# Altium footprint library PCB.PcbLib: 15 footprints
Each footprint in its own frame and in the unit in brackets; x right, y up, seen from the top. Pads: shape width x height; smd on the part's side, far side on the other; paste and mask are expansions set on the pad; w line width, h text height; cw(c..) or ccw(c..) is an arc to the next point about the centre after c.
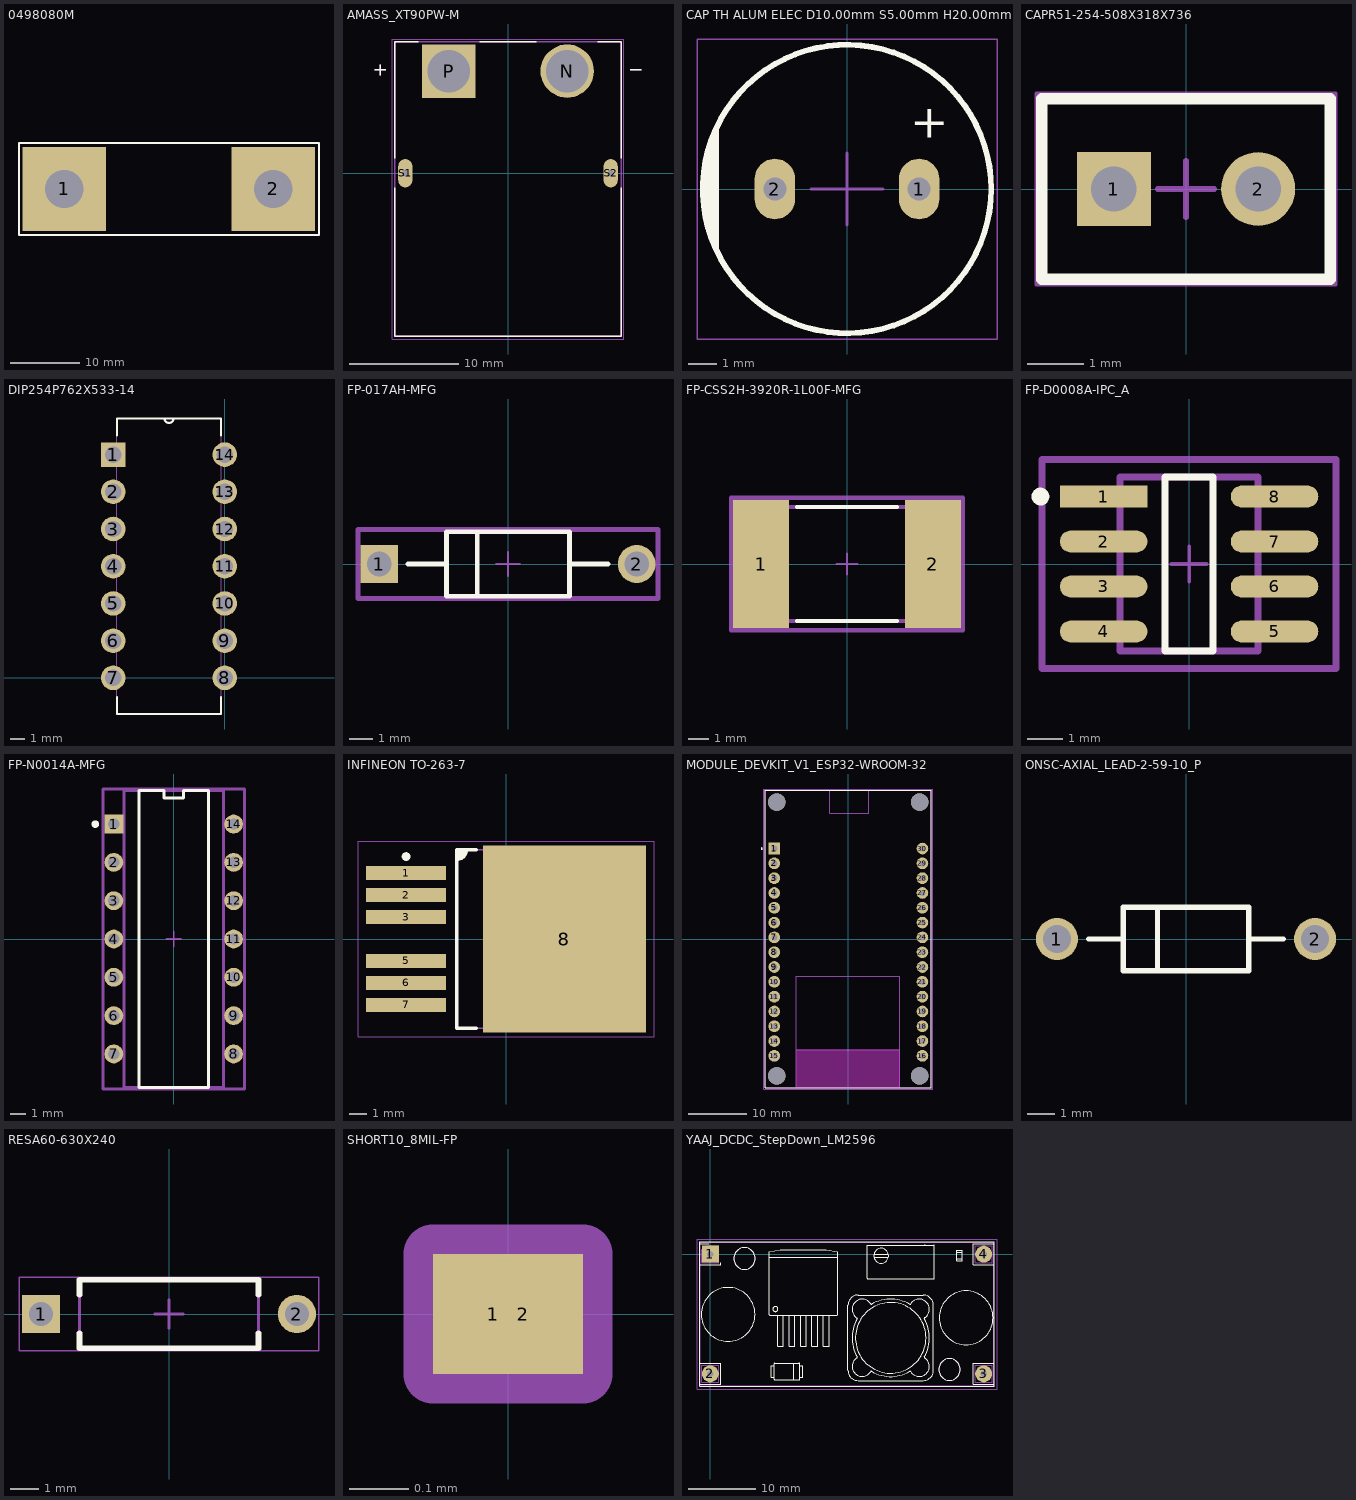
[diagram p0: the footprints below, top view; thin cyan lines are the x and y axes]

## 0498080M [mm] "80 A 32 V Fuse Automotive Bolt Mount Auto Link"
pads (2):
  rect 12x12 hole 5.5: 1(1203.452,1254.379) 2(1233.452,1254.379)
Top Overlay:
  lines w0.254: 1196.975,1247.775 1196.975,1260.983 1240.028,1260.983 1240.028,1247.775 1196.975,1247.775
  text ".Designator" at 1197.229,1270.609 h1.52

## AMASS_XT90PW-M [mm]
pads (4):
  round 4.916 hole 3.9: N(5.45,9.4)
  rect 4.916x4.916 / inner round 4.916 / far side rect 4.916x4.916 hole 3.9: P(-5.45,9.4)
  oval 1.3x2.6 hole 0.6 square: S1(-9.45,0) S2(9.45,0)
Top Overlay:
  lines w0.127: -12.25,9.5 -11.25,9.5 ; -11.75,9 -11.75,10 ; -10.4,-1.35 -10.4,-15 10.4,-15 10.4,-1.35 ; -10.4,1.4 -10.4,12.1 -8.25,12.1 ; -2.6,12.1 2.6,12.1 ; 8.25,12.1 10.4,12.1 10.4,1.4 ; 11.25,9.5 12.25,9.5
Mechanical 13:
  lines w0.127: -12.25,9.5 -11.25,9.5 ; -11.75,9 -11.75,10 ; 11.25,9.5 12.25,9.5 ; -10.4,-15 -10.4,12.1 10.4,12.1 10.4,-15 -10.4,-15
Mechanical 15:
  lines w0.05: -10.65,-15.25 -10.65,12.35 10.65,12.35 10.65,-15.25 -10.65,-15.25
3D body "step_temp.STEP": height 10.3, standoff -3.2, extent -10.6,-15 10.6,12.1

## CAP TH ALUM ELEC D10.00mm S5.00mm H20.00mm [mm] "10mm Diameter 5mm Lead Spacing Aluminum Electrolytic Capacitors Radial, Can"
height 20
pads (2):
  oval 1.4x2.1 hole 0.8: 1(2.5,0) 2(-2.5,0)
Top Overlay:
  circle w0.2: c0,0 r5
  region: -4.532,-2.113 -4.647,-1.866 -4.822,-1.349 -4.941,-0.816 -5,-0.273 -5,0.273 -4.941,0.816 -4.822,1.349 -4.647,1.866 -4.532,2.113
  lines w0.2: -4.532,-2.113 cw(c0,0) -4.532,2.113 -4.532,-2.113
  text "+" at 2.2,1.4 h2
Mechanical 13:
  circle w0.1: c0,0 r5
  lines w0.1: -4.532,-2.113 -4.532,2.113
Mechanical 15:
  lines w0.05: -5.2,-5.2 -5.2,5.2 5.2,5.2 5.2,-5.2 -5.2,-5.2
  lines w0.1: -1.25,0 0,0 ; 0,-1.25 0,0 ; 0,1.25 0,0 ; 1.25,0 0,0
3D body "Cap TH D10.00mm H20.00mm L5.00mm.step": height 20, standoff -2.5, extent -5.007,-5 5,5

## CAPR51-254-508X318X736 [mm] "THD, 2-Leads, Body 5.08x3.18mm"
height 7.36
pads (2):
  rect 1.3x1.3 hole 0.8: 1(-1.27,0)
  round 1.3 hole 0.8: 2(1.27,0)
Top Overlay:
  lines w0.2: -2.54,-1.59 -2.54,1.59 2.54,1.59 2.54,-1.59 -2.54,-1.59
Mechanical 13:
  lines w0.1: -2.54,-1.59 2.54,-1.59 2.54,1.59 -2.54,1.59 -2.54,-1.59
Mechanical 15:
  lines w0.05: -2.64,-1.69 -2.64,1.69 2.64,1.69 2.64,-1.69 -2.64,-1.69
  lines w0.1: -0.5,0 0.5,0 ; 0,-0.5 0,0.5
3D body: height 7.36, standoff 0, extent -2.54,-1.59 2.54,1.59
3D body: height 6, standoff -1, extent -1.567,-0.299 -0.97,0.3
3D body: height 6, standoff -1, extent 0.973,-0.299 1.57,0.3

## DIP254P762X533-14 [mil]
pads (14):
  rect 66x66 / inner round 66 / far side rect 66x66 hole 44: 1(-300,600)
  round 66 hole 44: 2(-300,500) 3(-300,400) 4(-300,300) 5(-300,200) 6(-300,100) 7(-300,0) 8(0,0) 9(0,100) 10(0,200) 11(0,300) 12(0,400) 13(0,500) 14(0,600)
Top Overlay:
  lines w6: -290,-51 -290,-97 -10,-97 -10,-51 ; -290,652 -290,697 -162,697 ; -10,651 -10,697 -138,697 ; -162,697 ccw(c-150,697) -138,697 ; -162,697 -138,697
Mechanical 13:
  lines w0: -162,697 ccw(c-150,697) -138,697 ; -162,697 -290,697 -290,-97 -10,-97 -10,697 -138,697 ; -162,697 -138,697 ; -322,-22 -290,-22 -290,22 -322,22 -322,-22 ; -322,78 -290,78 -290,122 -322,122 -322,78 ; -322,178 -290,178 -290,222 -322,222 -322,178 ; -322,278 -290,278 -290,322 -322,322 -322,278 ; -322,378 -290,378 -290,422 -322,422 -322,378 ; -322,478 -290,478 -290,522 -322,522 -322,478 ; -322,578 -290,578 -290,622 -322,622 -322,578 ; -10,-22 22,-22 22,22 -10,22 -10,-22 ; -10,78 22,78 22,122 -10,122 -10,78 ; -10,178 22,178 22,222 -10,222 -10,178 ; -10,278 22,278 22,322 -10,322 -10,278 ; -10,378 22,378 22,422 -10,422 -10,378 ; -10,478 22,478 22,522 -10,522 -10,478 ; -10,578 22,578 22,622 -10,622 -10,578
3D body "step_temp.STEP": height 210, standoff -160, extent -155.75,-380 155.75,380

## FP-017AH-MFG [mm]
pads (2):
  rect 1.6x1.6 hole 1.05 paste-2539.97 mask+0: 1(-5.438,0)
  round 1.6 hole 1.05 paste-2539.97 mask+0: 2(5.438,0)
Top Overlay:
  lines w0.2: -4.238,0 -2.6,0 ; -1.3,-1.29 -1.3,1.29 ; 2.6,0 4.238,0 ; -2.6,-1.36 2.6,-1.36 2.6,1.36 -2.6,1.36 -2.6,-1.36
Top 3D Body:
  lines w0.2: -2.6,-1.36 2.6,-1.36 2.6,1.36 -2.6,1.36 -2.6,-1.36
Top Courtyard:
  lines w0.2: -6.338,-1.46 6.338,-1.46 6.338,1.46 -6.338,1.46 -6.338,-1.46
Top Assembly:
  lines w0.2: -6.338,-1.46 6.338,-1.46 6.338,1.46 -6.338,1.46 -6.338,-1.46
  text ".Designator" at 0,0.188 h1
Top Component Center:
  lines w0.1: -0.5,0 0.5,0 ; 0,-0.5 0,0.5
3D body "Diode_onsemi_BZX85C3V9TR_eec.STEP": height 0.25, standoff 0, extent -6.338,-1.46 6.338,1.46

## FP-CSS2H-3920R-1L00F-MFG [mm]
pads (2):
  rect 2.7x6.2 smd paste+0 mask+0: 1(-4.15,0) 2(4.15,0)
Top Overlay:
  lines w0.2: -2.425,-2.75 2.425,-2.75 ; -2.425,2.75 2.425,2.75
Top 3D Body:
  lines w0.2: -5.15,-2.75 5.15,-2.75 5.15,2.75 -5.15,2.75 -5.15,-2.75
Top Courtyard:
  lines w0.2: -5.6,-3.2 5.6,-3.2 5.6,3.2 -5.6,3.2 -5.6,-3.2
Top Assembly:
  lines w0.2: -5.6,-3.2 5.6,-3.2 5.6,3.2 -5.6,3.2 -5.6,-3.2
  text ".Designator" at 0,0.188 h1
Top Component Center:
  lines w0.1: -0.5,0 0.5,0 ; 0,-0.5 0,0.5
3D body "Res_Bourns_CSS2H-3920R-1L00F_eec.STEP": height 0.25, standoff 0, extent -5.6,-3.2 5.6,3.2

## FP-D0008A-IPC_A [mm]
pads (8):
  rect 2.469x0.622 smd paste+0 mask+0: 1(-2.414,1.905)
  rrect100% 2.469x0.622 smd paste+0 mask+0: 2(-2.414,0.635) 3(-2.414,-0.635) 4(-2.414,-1.905) 5(2.414,-1.905) 6(2.414,-0.635) 7(2.414,0.635) 8(2.414,1.905)
Top Overlay:
  circle w0.25: c-4.198,1.905 r0.125
  lines w0.2: -0.679,-2.452 0.679,-2.452 0.679,2.452 -0.679,2.452 -0.679,-2.452
Top 3D Body:
  lines w0.2: -1.947,-2.452 1.947,-2.452 1.947,2.452 -1.947,2.452 -1.947,-2.452
Top Courtyard:
  lines w0.2: -4.148,-2.953 4.148,-2.953 4.148,2.953 -4.148,2.953 -4.148,-2.953
Top Assembly:
  lines w0.2: -4.148,-2.953 4.148,-2.953 4.148,2.953 -4.148,2.953 -4.148,-2.953
  text ".Designator" at 0,0.188 h1
Top Component Center:
  lines w0.1: -0.5,0 0.5,0 ; 0,-0.5 0,0.5
3D body "IC_Texas_Instruments_ISO7220ADR_eec.STEP": height 0.25, standoff 0, extent -4.148,-2.953 4.148,2.953

## FP-N0014A-MFG [mm]
pads (14):
  rect 1.25x1.25 hole 0.75 paste-2539.97 mask+0: 1(-3.97,7.62)
  round 1.25 hole 0.75 paste-2539.97 mask+0: 2(-3.97,5.08) 3(-3.97,2.54) 4(-3.97,0) 5(-3.97,-2.54) 6(-3.97,-5.08) 7(-3.97,-7.62) 8(3.97,-7.62) 9(3.97,-5.08) 10(3.97,-2.54) 11(3.97,0) 12(3.97,2.54) 13(3.97,5.08) 14(3.97,7.62)
Top Overlay:
  circle w0.25: c-5.2,7.62 r0.125
  lines w0.2: -2.3,-9.845 -2.3,9.845 -0.657,9.845 -0.657,9.345 0.657,9.345 0.657,9.845 2.3,9.845 2.3,-9.845 -2.3,-9.845
Top 3D Body:
  lines w0.2: -3.3,-9.845 3.3,-9.845 3.3,9.845 -3.3,9.845 -3.3,-9.845
Top Courtyard:
  lines w0.2: -4.695,-9.945 4.695,-9.945 4.695,9.945 -4.695,9.945 -4.695,-9.945
Top Assembly:
  lines w0.2: -4.695,-9.945 4.695,-9.945 4.695,9.945 -4.695,9.945 -4.695,-9.945
  text ".Designator" at 0,0.188 h1
Top Component Center:
  lines w0.1: -0.5,0 0.5,0 ; 0,-0.5 0,0.5
3D body "IC_Texas_Instruments_SN7406N_eec.STEP": height 0.25, standoff 0, extent -4.695,-9.945 4.695,9.945

## INFINEON TO-263-7 [mm] "D2-PAK, 7-Pads, Body 7.82x8.52mm (max), IPC Medium Density"
height 4.57
pads (7):
  rect 4.6x0.8 smd: 1(-5.775,3.81) 2(-5.775,2.54) 3(-5.775,1.27) 5(-5.775,-1.27) 6(-5.775,-2.54) 7(-5.775,-3.81)
  rect 9.4x10.8 smd: 8(3.375,0)
Top Overlay:
  circle w0.25: c-5.775,4.76 r0.125
  region: -2.85,5.15 -2.288,5.15 -2.288,5.041 -2.371,4.838 -2.526,4.684 -2.728,4.6 -2.838,4.6 -2.85,4.6
  lines w0.2: -2.85,4.6 -2.838,4.6 ccw(c-2.838,5.15) -2.288,5.15 ; -1.725,-5.15 -2.85,-5.15 -2.85,5.15 -1.725,5.15
Mechanical 13:
  lines w0.1: -2.85,-5.15 6.6,-5.15 6.6,5.15 -2.85,5.15 -2.85,-5.15
Mechanical 15:
  lines w0.05: -8.55,-5.65 8.55,-5.65 8.55,5.65 -8.55,5.65 -8.55,-5.65
  lines w0.1: -0.5,0 0.5,0 ; 0,-0.5 0,0.5
3D body "TO-263-7.STEP": height 4.54, standoff 0, extent -7.62,-5.08 7.63,5.08

## MODULE_DEVKIT_V1_ESP32-WROOM-32 [mm]
height 7.05
pads (34):
  rect 2x2 / inner round 2 / far side rect 2x2 hole 1.02 mask+0.102: 1(-12.7,15.515)
  round 2 hole 1.02 mask+0.102: 2(-12.7,12.975) 3(-12.7,10.435) 4(-12.7,7.895) 5(-12.7,5.355) 6(-12.7,2.815) 7(-12.7,0.275) 8(-12.7,-2.265) 9(-12.7,-4.805) 10(-12.7,-7.345) 11(-12.7,-9.885) 12(-12.7,-12.425) 13(-12.7,-14.965) 14(-12.7,-17.505) 15(-12.7,-20.045) 16(12.7,-20.045) 17(12.7,-17.505) 18(12.7,-14.965) 19(12.7,-12.425) 20(12.7,-9.885) 21(12.7,-7.345) 22(12.7,-4.805) 23(12.7,-2.265) 24(12.7,0.275) 25(12.7,2.815) 26(12.7,5.355) 27(12.7,7.895) 28(12.7,10.435) 29(12.7,12.975) 30(12.7,15.515)
  round 3 hole 3 unplated mask+0: ""(-12.28,-23.475) ""(-12.28,23.475) ""(12.23,-23.475) ""(12.23,23.475)
Top Overlay:
  circle w0.2: c-14.85,15.515 r0.1
  lines w0.127: -14.28,-25.475 14.23,-25.475 ; -14.28,-25.475 -14.28,25.475 ; -14.28,-25.475 -14.28,25.475 ; -14.28,-25.475 -8.91,-25.475 8.78,-25.475 14.23,-25.475 ; -14.28,25.475 14.23,25.475 ; -14.28,25.475 -3.211,25.475 3.5,25.475 14.23,25.475 ; 14.23,-25.475 14.23,25.475 ; 14.23,-25.475 14.23,25.475
Keep-Out Layer:
  region: 8.78,-25.475 -8.91,-25.475 -8.91,-18.985 8.78,-18.985
  region: 8.78,-25.475 -8.91,-25.475 -8.91,-18.985 8.78,-18.985
Mechanical 13:
  circle w0.2: c-14.85,15.515 r0.1
  lines w0.127: -8.91,-25.475 -14.28,-25.475 -14.28,25.475 -3.211,25.475 ; -8.91,-25.475 8.78,-25.475 ; -8.91,-25.475 -8.91,-18.985 ; -8.91,-18.985 -8.91,-6.355 8.78,-6.355 8.78,-18.985 ; -8.91,-18.985 8.78,-18.985 ; -3.211,25.475 3.5,25.475 ; -3.211,25.475 -3.211,21.585 3.5,21.585 3.5,25.475 ; 3.5,25.475 14.23,25.475 14.23,-25.475 8.78,-25.475 ; 8.78,-25.475 8.78,-18.985
Mechanical 15:
  lines w0.05: -14.53,-25.725 -14.53,25.725 14.48,25.725 14.48,-25.725 -14.53,-25.725
3D body "step_temp.STEP": height 6.69, standoff -6, extent -13.97,-24.8 13.97,30.3

## ONSC-AXIAL_LEAD-2-59-10_P [mm] "AXIAL, 2-Leads, Diameter 2.35mm"
height 2.35
pads (2):
  round 1.55 hole 1.05: 1(-4.77,0) 2(4.77,0)
Top Overlay:
  lines w0.2: -3.595,0 -2.325,0 ; -1.055,-1.175 -1.055,1.175 ; 2.325,0 3.595,0 ; -2.325,-1.175 2.325,-1.175 2.325,1.175 -2.325,1.175 -2.325,-1.175
Mechanical 13:
  lines w0.1: -1.055,-1.175 -1.055,1.175 ; -2.325,-1.175 -2.325,1.175 2.325,1.175 2.325,-1.175 -2.325,-1.175
3D body: height 2.34, standoff 0, extent -1.155,-1.174 -0.955,1.174
3D body: height 1.17, standoff -6, extent 4.381,-0.392 5.163,0.392
3D body: height 1.17, standoff -6, extent -5.159,-0.392 -4.377,0.392
3D body: height 1.57, standoff 0.78, extent 4.378,-0.39 5.163,0.39
3D body: height 1.57, standoff 0.78, extent -5.162,-0.39 -4.377,0.39
3D body: height 1.56, standoff 0.78, extent -4.77,-0.392 4.77,0.392
3D body: height 2.34, standoff 0, extent -2.325,-1.173 2.325,1.173

## RESA60-630X240 [mm] "Axial Resistor, 2-Leads, Dia 2.4mm, Body Length 6.3mm"
height 2.6
pads (2):
  rect 1.35x1.35 hole 0.85: 1(-4.5,0)
  round 1.35 hole 0.85: 2(4.5,0)
Top Overlay:
  lines w0.2: -3.15,-0.674 -3.15,-1.2 3.15,-1.2 3.15,-0.674 ; -3.15,0.674 -3.15,1.2 3.15,1.2 3.15,0.674
Mechanical 13:
  lines w0.1: -3.15,-1.2 3.15,-1.2 3.15,1.2 -3.15,1.2 -3.15,-1.2
Mechanical 15:
  lines w0.05: -5.275,-1.3 -5.275,1.3 5.275,1.3 5.275,-1.3 -5.275,-1.3
  lines w0.1: -0.5,0 0.5,0 ; 0,-0.5 0,0.5
3D body: height 1.48, standoff 0.92, extent 4.225,-0.273 4.775,0.273
3D body: height 1.47, standoff 0.92, extent 3.15,-0.274 4.5,0.275
3D body: height 1.2, standoff -2, extent 4.225,-0.274 4.773,0.275
3D body: height 1.2, standoff -2, extent -4.773,-0.275 -4.225,0.274
3D body: height 1.47, standoff 0.92, extent -4.5,-0.275 -3.15,0.274
3D body: height 1.48, standoff 0.92, extent -4.775,-0.273 -4.225,0.273
3D body: height 2.4, standoff 0, extent -3.15,-1.191 3.15,1.2

## SHORT10_8MIL-FP [mil]
pads (2):
  rect 8x8 smd paste-39.37: 1(-1,0) 2(1,0)
Top Assembly:
  lines w3.94: -5,-4 -5,4 5,4 5,-4 -5,-4
Top Designator:
  text ".Designator" at -50,0 h23.62

## YAAJ_DCDC_StepDown_LM2596 [mm]
pads (4):
  rect 2.54x2.54 hole 1: 1(0,0)
  round 2.54 hole 1: 2(0,-17.78) 3(40.64,-17.78) 4(40.64,0)
Top Overlay:
  circle w0.12: c2.647,-8.957 r4
  circle w0.12: c38.029,-9.455 r4
  circle w0.12: c26.817,-12.436 r5.25
  circle w0.12: c5.08,-0.635 r1.599
  circle w0.12: c35.56,-17.145 r1.599
  circle w0.12: c9.673,-8.155 r0.375
  lines w0.12: -1.55,-19.36 1.58,-19.36 1.58,-16.2 -1.55,-16.2 ; -1.55,-1.575 1.58,-1.58 1.58,-1.27 ; -1.55,1.58 -0.25,1.58 ; 8.749,-1.166 8.749,-1.004 ; 8.75,-0.427 18.91,-0.427 ; 9.482,-18.308 9.032,-18.308 9.032,-16.558 9.482,-16.558 ; 10.01,-9.067 10.01,-13.697 10.85,-13.697 10.85,-9.067 ; 11.71,-9.067 11.71,-13.697 12.55,-13.697 12.55,-9.067 ; 12.411,-18.583 12.411,-16.283 ; 13.282,-18.308 13.732,-18.308 13.732,-16.558 13.282,-16.558 ; 13.283,-16.795 13.283,-16.7 ; 13.41,-9.067 13.41,-13.697 14.25,-13.697 14.25,-9.067 ; 15.11,-9.067 15.11,-13.697 15.95,-13.697 15.95,-9.067 ; 16.81,-9.067 16.81,-13.697 17.65,-13.697 17.65,-9.067 ; 24.324,-0.463 cw(c25.4,-0.232) 24.336,-0.514 ; 24.324,-0.002 24.349,-0.007 ; 24.336,0.049 24.361,0.018 ; 24.356,0.024 24.349,-0.007 ; 24.361,-0.482 26.439,-0.482 ; 26.439,0.018 24.361,0.018 ; 31.814,1.369 31.859,1.369 ; 31.908,1.369 31.942,1.369 ; 36.649,-0.66 37.449,-0.66 ; 36.649,0.3 37.449,0.3 ; 42.175,-19.36 39.06,-19.36 39.06,-16.2 42.175,-16.2 ; 42.175,1.58 39.06,1.58 39.06,-1.58 42.22,-1.58 ; 24.349,-0.007 24.361,0.018 ; -1.555,-19.615 -1.555,1.835 42.195,1.835 42.195,-19.615 -1.555,-19.615 ; 8.75,-8.989 8.828,-9.067 18.833,-9.067 18.91,-8.989 18.91,0.362 17.26,0.653 10.4,0.653 8.75,0.362 8.75,-8.989 ; 9.482,-18.583 ccw(c9.582,-18.583) 9.582,-18.683 13.182,-18.683 ccw(c13.182,-18.583) 13.282,-18.583 13.282,-16.283 ccw(c13.182,-16.283) 13.182,-16.183 9.582,-16.183 ccw(c9.582,-16.283) 9.482,-16.283 9.482,-18.583 ; 20.467,-17.286 ccw(c21.967,-17.286) 21.967,-18.786 31.667,-18.786 ccw(c31.667,-17.286) 33.167,-17.286 33.167,-7.586 ccw(c31.667,-7.586) 31.667,-6.086 21.967,-6.086 ccw(c21.967,-7.586) 20.467,-7.586 20.467,-17.286 ; 21.781,-15.406 ccw(c22.575,-16.678) 23.848,-17.472 cw(c23.932,-17.525) 23.982,-17.438 ccw(c26.817,-12.436) 29.653,-17.438 cw(c29.702,-17.525) 29.787,-17.472 ccw(c31.06,-16.678) 31.854,-15.406 cw(c31.907,-15.321) 31.82,-15.271 ccw(c26.817,-12.436) 31.82,-9.6 cw(c31.907,-9.551) 31.854,-9.466 ccw(c31.06,-8.193) 29.787,-7.4 cw(c29.702,-7.347) 29.653,-7.434 ccw(c26.817,-12.436) 23.982,-7.434 cw(c23.932,-7.347) 23.848,-7.4 ccw(c22.575,-8.193) 21.781,-9.466 cw(c21.728,-9.551) 21.815,-9.6 ccw(c26.817,-12.436) 21.815,-15.271 cw(c21.728,-15.321) 21.781,-15.406 ; 23.3,-3.582 ccw(c23.35,-3.582) 23.35,-3.632 33.25,-3.632 ccw(c33.25,-3.582) 33.3,-3.582 33.3,1.318 ccw(c33.25,1.318) 33.25,1.368 23.35,1.368 ccw(c23.35,1.318) 23.3,1.318 23.3,-3.582 ; 36.649,-0.98 36.649,0.62 37.449,0.62 37.449,-0.98 36.649,-0.98
Bottom Designator:
  lines w0.05: -1.98,-20.04 42.62,-20.04 42.62,2.26 -1.98,2.26 -1.98,-20.04
Mechanical 6:
  circle w0.1: c35.56,-17.145 r1.599
  circle w0.1: c5.08,-0.635 r1.599
  lines w0.1: -1.48,-19.54 42.12,-19.54 42.12,1.76 -1.48,1.76 -1.48,-19.54 ; -1.27,-19.05 1.27,-19.05 1.27,-16.51 -1.27,-16.51 -1.27,-19.05 ; -1.27,-1.27 -1.27,0.635 -0.635,1.27 1.27,1.27 1.27,-1.27 -1.27,-1.27 ; 39.37,-19.05 41.91,-19.05 41.91,-16.51 39.37,-16.51 39.37,-19.05 ; 39.37,-1.27 41.91,-1.27 41.91,1.27 39.37,1.27 39.37,-1.27
  text "REF**" at 20.896,-9.17 h1